# EAGLE library part 4_DIGIT_7_SEGMENT_DISPLAY (library hmcfabstudio)
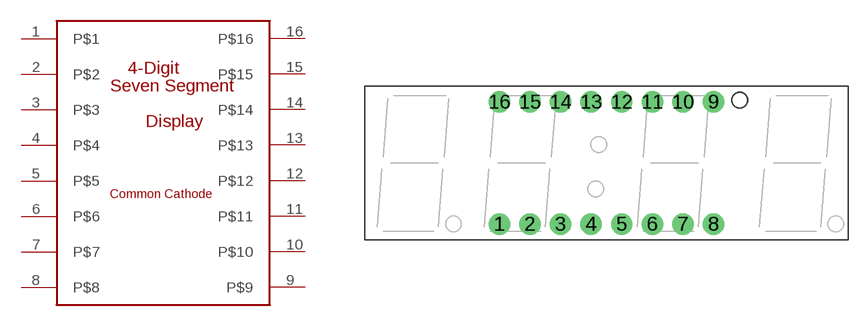
[diagram p3: symbol with the pads of 7-SEGMENT-4DIGIT-YOUNGSUN; footprint 7-SEGMENT-4DIGIT-YOUNGSUN]

Designator prefix -

## 4_DIGIT_7_SEGMENT_DISPLAY  [7-SEGMENT-4DIGIT-YOUNGSUN]
1  P$1
2  P$2
3  P$3
4  P$4
5  P$5
6  P$6
7  P$7
8  P$8
9  P$9
10  P$10
11  P$11
12  P$12
13  P$13
14  P$14
15  P$15
16  P$16

## Footprint 7-SEGMENT-4DIGIT-YOUNGSUN (pad centres in mm)
This is a package for the 4-digit 7-segment RED LED from Young Sun.
drill 0.8 pad 1.778: 1 -8.89,-5.08; 2 -6.35,-5.08; 3 -3.81,-5.08; 4 -1.27,-5.08; 5 1.27,-5.08; 6 3.81,-5.08; 7 6.35,-5.08; 8 8.89,-5.08; 9 8.89,5.08; 10 6.35,5.08; 11 3.81,5.08; 12 1.27,5.08; 13 -1.27,5.08; 14 -3.81,5.08; 15 -6.35,5.08; 16 -8.89,5.08